# Altium footprint library TO254P500X1000X2170-3P.PcbLib: 1 footprints
Each footprint in its own frame and in the unit in brackets; x right, y up, seen from the top. Pads: shape width x height; smd on the part's side, far side on the other; paste and mask are expansions set on the pad; w line width, h text height; cw(c..) or ccw(c..) is an arc to the next point about the centre after c.
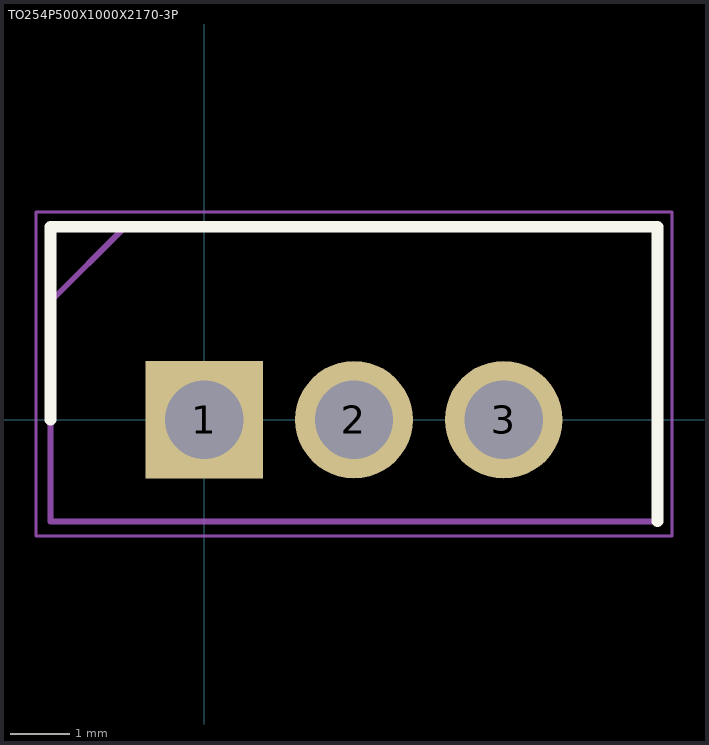
[diagram p0: the footprint, top view; thin cyan lines are the x and y axes]

## TO254P500X1000X2170-3P [mm]
pads (3):
  rect 1.995x1.995 / inner round 1.995 / far side rect 1.995x1.995 hole 1.33: 1(0,0)
  round 1.995 hole 1.33: 2(2.54,0) 3(5.08,0)
Top Overlay:
  lines w0.2: -2.61,0 -2.61,3.275 7.69,3.275 7.69,-1.725
Mechanical 15:
  lines w0.1: -2.61,2.005 -1.34,3.275 ; -2.61,-1.725 7.69,-1.725 7.69,3.275 -2.61,3.275 -2.61,-1.725
Mechanical 20:
  lines w0.05: -2.86,-1.975 7.94,-1.975 7.94,3.525 -2.86,3.525 -2.86,-1.975